# Altium schematic symbol library Gen_func.SchLib: 27 symbols
Pins are listed as number, name and electrical type; pins without a type are passive.

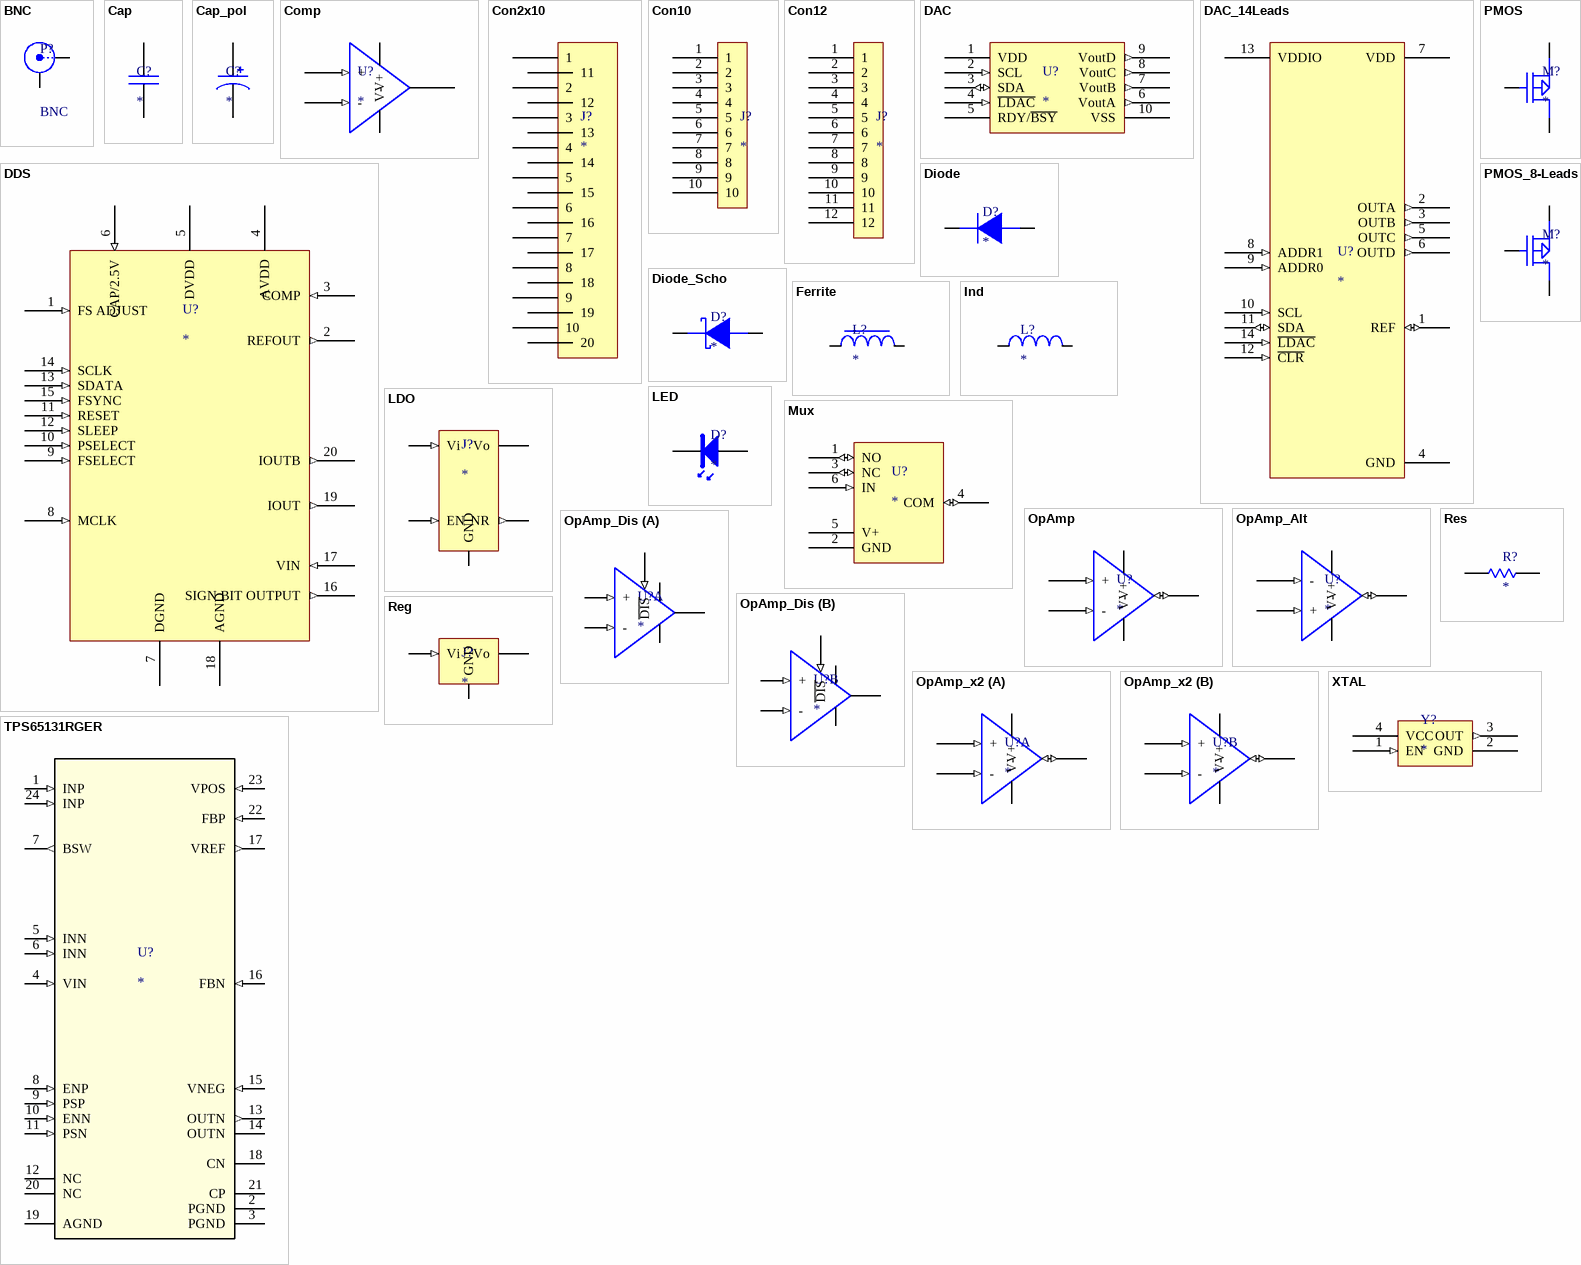
[diagram p0: symbols BNC to XTAL]

## BNC
designator P?
BNC Elbow Connector; LatestRevisionDate: 17-Jul-2002; LatestRevisionNote: Re-released for DXP Platform.; Publisher: Altium Limited
footprint BNC_RA CON (Connector; BNC Elbow)
signal-integrity model Connector
pins: 1 X, 2 Y

## Cap
designator C?
Capacitor
pins: 1, 2

## Cap_pol
designator C?
Polarized Capacitor
pins: 1, 2

## Comp
designator U?
Comparator
pins: 1 Vout (oc), 2 V- (power) "Negative supply", 3 + (in) "Non inverting input", 4 - (in) "Inverting input", 5 V+ (power) "Positive supply"

## Con2x10
designator J?
Connector 2x10
pins: 1, 2, 3, 4, 5, 6, 7, 8, 9, 10, 11, 12, 13, 14, 15, 16, 17, 18, 19, 20

## Con10
designator J?
Connector x10
pins: 1, 2, 3, 4, 5, 6, 7, 8, 9, 10

## Con12
designator J?
Connector x12
pins: 1, 2, 3, 4, 5, 6, 7, 8, 9, 10, 11, 12

## DAC
designator U?
DAC x4 I2C
pins: 1 VDD (power), 2 SCL (in) "Serial Clock Input", 3 SDA (io) "Seria Data", 4 ~{LDAC} (in), 5 RDY/~{BSY} (oc), 6 VoutA (out), 7 VoutB (out), 8 VoutC (out), 9 VoutD (out), 10 VSS (power)

## DAC_14Leads
designator U?
DAC x4 I2C
pins: 1 REF (io), 2 OUTA (out), 3 OUTB (out), 4 GND (power), 5 OUTC (out), 6 OUTD (out), 7 VDD (power), 8 ADDR1 (in), 9 ADDR0 (in), 10 SCL (in) "Serial Clock Input", 11 SDA (io) "Seria Data", 12 ~{CLR} (in) "Seria Data", 13 VDDIO (power), 14 ~{LDAC} (in)

## DDS
designator U?
DDS 50MHz
pins: 1 FS ADJUST (in), 2 REFOUT (out), 3 COMP (in), 4 AVDD (power), 5 DVDD (power), 6 CAP/2.5V (in), 7 DGND (power), 8 MCLK (in), 9 FSELECT (in), 10 PSELECT (in), 11 RESET (in), 12 SLEEP (in), 13 SDATA (in), 14 SCLK (in), 15 FSYNC (in), 16 SIGN BIT OUTPUT (out), 17 VIN (in), 18 AGND (power), 19 IOUT (out), 20 IOUTB (out)

## Diode
designator D?
Diode
pins: 1 K, 2 A

## Diode_Scho
designator D?
Schottky diode
pins: 1 K, 2 A

## Ferrite
designator L?
Ferrite Bead
pins: 1, 2

## Ind
designator L?
Inductor
pins: 1, 2

## LDO
designator J?
LDO_Adjustable
pins: 1 Vi (in), 2 GND (power) "Ground", 3 EN (in) "Ground", 4 NR (out) "Ground", 5 Vo (power)

## LED
designator D?
LED
pins: 1, 2

## Mux
designator U?
Multiplexor SPDT x1
pins: 1 NO (io) "Normally open switch port", 2 GND (power) "Ground", 3 NC (io) "Normally closed switch port", 4 COM (io) "Common switch port", 5 V+ (power) "Power supply", 6 IN (in) "Switch select"

## OpAmp
designator U?
OpAmp
pins: 1 Vout (io), 2 V- (power) "Negative supply", 3 + (in) "Non inverting input", 4 - (in) "Inverting input", 5 V+ (power) "Positive supply"

## OpAmp_Alt
designator U?
OpAmp
pins: 1 Vout (io), 2 V- (power) "Negative supply", 3 + (in) "Non inverting input", 4 - (in) "Inverting input", 5 V+ (power) "Positive supply"

## OpAmp_Dis
designator U?
OpAmp_Disable_x2
part A pins: 1 + (in) "Non inverting input", 2 ~{DIS} (in) "Ground", 3 V- (power) "Negative supply", 8 V+ (power) "Positive supply", 9 Vout (hiz), 10 - (in) "Inverting input"
part B pins: 3 V- (power) "Negative supply", 4 ~{DIS} (in) "Ground", 5 + (in) "Non inverting input", 6 - (in) "Inverting input", 7 Vout (hiz), 8 V+ (power) "Positive supply"

## OpAmp_x2
designator U?
OpAmp_x2
part A pins: 1 Vout (io), 2 - (in) "Inverting input", 3 + (in) "Non inverting input", 4 V- (power) "Negative supply", 8 V+ (power) "Positive supply"
part B pins: 4 V- (power) "Negative supply", 5 + (in) "Non inverting input", 6 - (in) "Inverting input", 7 Vout (io), 8 V+ (power) "Positive supply"

## PMOS
designator M?
Transistor
pins: 1 Gate, 2 Source, 3 Drain

## PMOS_8-Leads
designator M?
Transistor
pins: 1 Drain, 2 Drain, 3 Drain, 4 Gate, 5 Source, 6 Source, 7 Source, 8 Source

## Reg
designator J?
Regulator
pins: 1 Vi (in), 2 Vo (power), 3 GND (power) "Ground"

## Res
designator R?
Resistor
pins: 1, 2

## TPS65131RGER
designator U?
Positive and Negative Output DC-DC Converter; PartNumber: TPS65131RGER; Alternate_PartNumber: TPS65131RGET; Manufacturer: Texas Instruments; CompType: IC; PIN_COUNT: 25; Application_BuildNumber: *; PackageReference: RGE0024B; MountType: SMT; RoHS: Y; RefDes: RefDes; Type: DEV; Value: Value; Manufacturer_Part_Number: TPS65131RGER; Manufacturer_Name: Texas Instruments
footprint RGE0024B
pins: 1 INP (in), 2 PGND (power), 3 PGND (power), 4 VIN (in), 5 INN (in), 6 INN (in), 7 BSW (out), 8 ENP (in), 9 PSP (in), 10 ENN (in), 11 PSN (in), 12 NC, 13 OUTN (out), 14 OUTN, 15 VNEG (in), 16 FBN (in), 17 VREF (out), 18 CN, 19 AGND (power), 20 NC, 21 CP, 22 FBP (in), 23 VPOS (in), 24 INP (in)

## XTAL
designator Y?
Crystal oscillator
pins: 1 EN (in) "Switch select", 2 GND (power) "Ground", 3 OUT (out), 4 VCC (power)